# Altium schematic symbol library WPME-VDMM.SchLib: 9 symbols
Pins are listed as number, name and electrical type; pins without a type are passive.

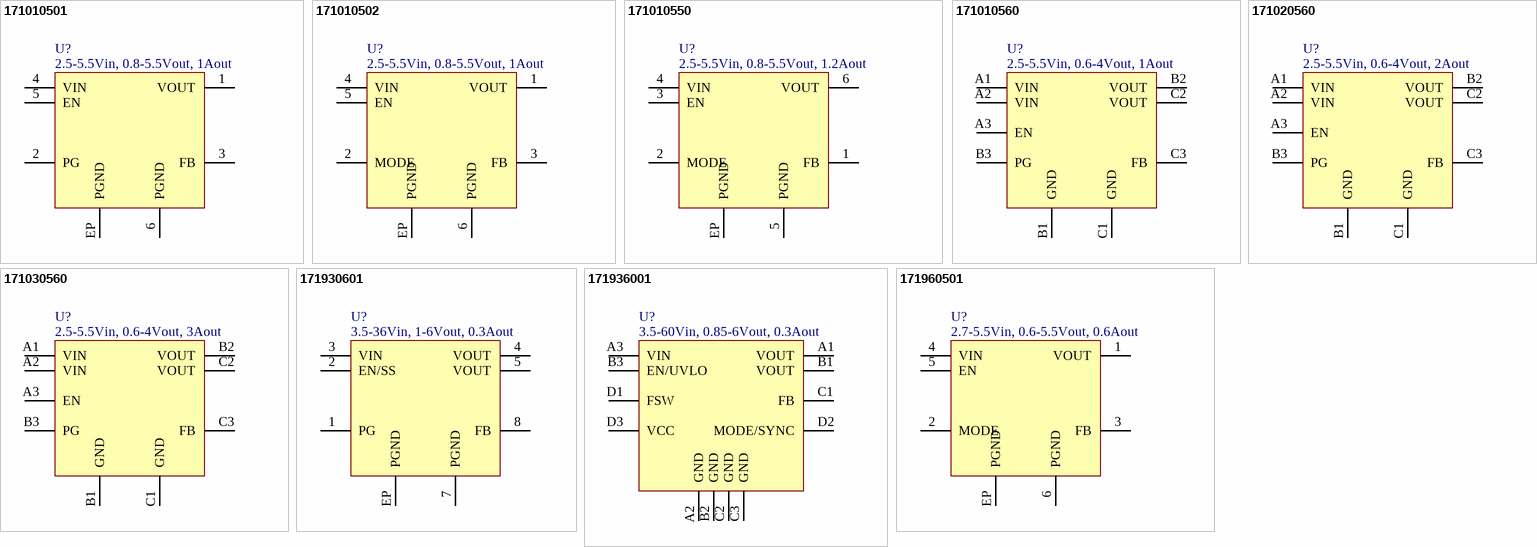
[diagram p0: symbols 171010501 to 171960501]

## 171010501
designator U?, comment 2.5-5.5Vin, 0.8-5.5Vout, 1Aout
WPME-VDMM Variable Step Down MicroModule, SMT, LGA-6EP, 2.5-5.5Vin, 0.8-5.5Vout, 1Aout; Manufacturer Part Number: 171010501; Manufacturer: Wurth Elektronik; Input Voltage Min: 2.5V; Input Voltage Max: 5.5V; Output Current: 1A; Output Voltage Min: 0.8V; Category: Step Down Converter; Match Code: WPME-VDMM; ComponentLink1Description: Website Link; ComponentLink1URL: https://www.we-online.com/redexpert/article/171010501?ad; ComponentLink2Description: Datasheet Link; ComponentLink2URL: https://www.we-online.com/redexpert/spec/171010501?ad; Mount: Surface Mount; Min Operating Temperature: -40°C; Max Operating Temperature: 125°C; Packaging: Tape and Reel; Case/Size Code: LGA-6EP; Length: 3.2mm; Width: 2.5mm; Height: 1.6mm; Output Voltage Max: 5.5V; Type: Open frame; Version: Power Good
footprint WPME-VDMM_LGA-6EP_L3.2W2.5H1.6
pins: 1 VOUT, 2 PG, 3 FB, 4 VIN, 5 EN, 6 PGND, EP PGND

## 171010502
designator U?, comment 2.5-5.5Vin, 0.8-5.5Vout, 1Aout
WPME-VDMM Variable Step Down MicroModule, SMT, LGA-6EP, 2.5-5.5Vin, 0.8-5.5Vout, 1Aout; Manufacturer Part Number: 171010502; Manufacturer: Wurth Elektronik; Input Voltage Min: 2.5V; Input Voltage Max: 5.5V; Output Current: 1A; Output Voltage Min: 0.8V; Category: Step Down Converter; Match Code: WPME-VDMM; ComponentLink1Description: Website Link; ComponentLink1URL: https://www.we-online.com/redexpert/article/171010502?ad; ComponentLink2Description: Datasheet Link; ComponentLink2URL: https://www.we-online.com/redexpert/spec/171010502?ad; Mount: Surface Mount; Min Operating Temperature: -40°C; Max Operating Temperature: 125°C; Packaging: Tape and Reel; Case/Size Code: LGA-6EP; Length: 3.2mm; Width: 2.5mm; Height: 1.6mm; Output Voltage Max: 5.5V; Type: Open frame; Version: Mode Select
footprint WPME-VDMM_LGA-6EP_L3.2W2.5H1.6
pins: 1 VOUT, 2 MODE, 3 FB, 4 VIN, 5 EN, 6 PGND, EP PGND

## 171010550
designator U?, comment 2.5-5.5Vin, 0.8-5.5Vout, 1.2Aout
WPME-VDMM Variable Step Down MicroModule, SMT, LGA-6EP, 2.5-5.5Vin, 0.8-5.5Vout, 1.2Aout; Manufacturer Part Number: 171010550; Manufacturer: Wurth Elektronik; Input Voltage Min: 2.5V; Input Voltage Max: 5.5V; Output Current: 1.2A; Output Voltage Min: 0.8V; Category: Step Down Converter; Match Code: WPME-VDMM; ComponentLink1Description: Website Link; ComponentLink1URL: https://www.we-online.com/redexpert/article/171010550?ad; ComponentLink2Description: Datasheet Link; ComponentLink2URL: https://www.we-online.com/redexpert/spec/171010550?ad; Mount: Surface Mount; Min Operating Temperature: -40°C; Max Operating Temperature: 125°C; Packaging: Tape and Reel; Case/Size Code: LGA-6EP; Length: 2.5mm; Width: 2.5mm; Height: 1.2mm; Output Voltage Max: 5.5V; Type: Overmolded; Version: Mode Select
footprint WPME-VDMM_LGA-6EP_L2.5W2.5H1.2
pins: 1 FB, 2 MODE, 3 EN, 4 VIN, 5 PGND, 6 VOUT, EP PGND

## 171010560
designator U?, comment 2.5-5.5Vin, 0.6-4Vout, 1Aout
WPME-VDMM Variable Step Down MicroModule, SMT, LGA-9, 2.5-5.5Vin, 0.6-4Vout, 1Aout; Manufacturer Part Number: 171010560; Manufacturer: Wurth Elektronik; Input Voltage Min: 2.5V; Input Voltage Max: 5.5V; Output Current: 1A; Output Voltage Min: 0.6V; Output Voltage Max: 4V; Category: Step Down Converter; Match Code: WPME-VDMM; ComponentLink1Description: Website Link; ComponentLink1URL: https://www.we-online.com/redexpert/article/171010560?ad; ComponentLink2Description: Datasheet Link; ComponentLink2URL: https://www.we-online.com/redexpert/spec/171010560?ad; Mount: Surface Mount; Min Operating Temperature: -40°C; Max Operating Temperature: 125°C; Packaging: Tape and Reel; Case/Size Code: LGA-9; Length: 3.5mm; Width: 3.5mm; Height: 1.5mm; Type: Overmolded; Version: Power Good
footprint WPME-VDMM_LGA-9_L3.5W3.5H1.5
pins: A1 VIN, A2 VIN, A3 EN, B1 GND, B2 VOUT, B3 PG, C1 GND, C2 VOUT, C3 FB

## 171020560
designator U?, comment 2.5-5.5Vin, 0.6-4Vout, 2Aout
WPME-VDMM Variable Step Down MicroModule, SMT, LGA-9, 2.5-5.5Vin, 0.6-4Vout, 2Aout; Manufacturer Part Number: 171020560; Manufacturer: Wurth Elektronik; Input Voltage Min: 2.5V; Input Voltage Max: 5.5V; Output Current: 2A; Output Voltage Min: 0.6V; Output Voltage Max: 4V; Category: Step Down Converter; Match Code: WPME-VDMM; ComponentLink1Description: Website Link; ComponentLink1URL: https://www.we-online.com/redexpert/article/171020560?ad; ComponentLink2Description: Datasheet Link; ComponentLink2URL: https://www.we-online.com/redexpert/spec/171020560?ad; Mount: Surface Mount; Min Operating Temperature: -40°C; Max Operating Temperature: 125°C; Packaging: Tape and Reel; Case/Size Code: LGA-9; Length: 3.5mm; Width: 3.5mm; Height: 1.5mm; Type: Overmolded; Version: Power Good
footprint WPME-VDMM_LGA-9_L3.5W3.5H1.5
pins: A1 VIN, A2 VIN, A3 EN, B1 GND, B2 VOUT, B3 PG, C1 GND, C2 VOUT, C3 FB

## 171030560
designator U?, comment 2.5-5.5Vin, 0.6-4Vout, 3Aout
WPME-VDMM Variable Step Down MicroModule, SMT, LGA-9, 2.5-5.5Vin, 0.6-4Vout, 3Aout; Manufacturer Part Number: 171030560; Manufacturer: Wurth Elektronik; Input Voltage Min: 2.5V; Input Voltage Max: 5.5V; Output Current: 3A; Output Voltage Min: 0.6V; Output Voltage Max: 4V; Category: Step Down Converter; Match Code: WPME-VDMM; ComponentLink1Description: Website Link; ComponentLink1URL: https://www.we-online.com/redexpert/article/171030560?ad; ComponentLink2Description: Datasheet Link; ComponentLink2URL: https://www.we-online.com/redexpert/spec/171030560?ad; Mount: Surface Mount; Min Operating Temperature: -40°C; Max Operating Temperature: 125°C; Packaging: Tape and Reel; Case/Size Code: LGA-9; Length: 3.5mm; Width: 3.5mm; Height: 1.5mm; Type: Overmolded; Version: Power Good
footprint WPME-VDMM_LGA-9_L3.5W3.5H1.5
pins: A1 VIN, A2 VIN, A3 EN, B1 GND, B2 VOUT, B3 PG, C1 GND, C2 VOUT, C3 FB

## 171930601
designator U?, comment 3.5-36Vin, 1-6Vout, 0.3Aout
WPME-VDMM Variable Step Down MicroModule, SMT, LGA-8EP, 3.5-36Vin, 1-6Vout, 0.3Aout; Manufacturer Part Number: 171930601; Manufacturer: Wurth Elektronik; Input Voltage Min: 3.5V; Input Voltage Max: 36V; Output Current: 0.3A; Output Voltage Min: 1V; Output Voltage Max: 6V; Category: Step Down Converter; Match Code: WPME-VDMM; ComponentLink1Description: Website Link; ComponentLink1URL: https://www.we-online.com/redexpert/article/171930601?ad; ComponentLink2Description: Datasheet Link; ComponentLink2URL: https://www.we-online.com/redexpert/spec/171930601?ad; Mount: Surface Mount; Min Operating Temperature: -40°C; Max Operating Temperature: 125°C; Packaging: Tape and Reel; Case/Size Code: LGA-8EP; Length: 5mm; Width: 2.5mm; Height: 1.8mm; Type: Overmolded; Version: Power Good
footprint WPME-VDMM_LGA-8EP_L5W2.5H1.8
pins: 1 PG, 2 EN/SS, 3 VIN, 4 VOUT, 5 VOUT, 7 PGND, 8 FB, EP PGND

## 171936001
designator U?, comment 3.5-60Vin, 0.85-6Vout, 0.3Aout
WPME-VDMM Variable Step Down MicroModule, SMT, LGA-12, 3.5-60Vin, 0.85-6Vout, 0.3Aout; Manufacturer Part Number: 171936001; Manufacturer: Wurth Elektronik; Input Voltage Min: 3.5V; Input Voltage Max: 60V; Output Current: 0.3A; Output Voltage Min: 0.85V; Output Voltage Max: 6V; Category: Step Down Converter; Match Code: WPME-VDMM; ComponentLink1Description: Website Link; ComponentLink1URL: https://www.we-online.com/redexpert/article/171936001?ad; ComponentLink2Description: Datasheet Link; ComponentLink2URL: https://www.we-online.com/redexpert/spec/171936001?ad; Mount: Surface Mount; Min Operating Temperature: -40°C; Max Operating Temperature: 125°C; Packaging: Tape and Reel; Case/Size Code: LGA-12; Length: 8mm; Width: 5.5mm; Height: 2.4mm; Type: Overmolded; Version: Mode Select
footprint WPME-VDMM_LGA-12_L8W5.5H2.4
pins: A1 VOUT, A2 GND, A3 VIN, B1 VOUT, B2 GND, B3 EN/UVLO, C1 FB, C2 GND, C3 GND, D1 FSW, D2 MODE/SYNC, D3 VCC

## 171960501
designator U?, comment 2.7-5.5Vin, 0.6-5.5Vout, 0.6Aout
WPME-VDMM Variable Step Down MicroModule, SMT, LGA-6EP, 2.7-5.5Vin, 0.6-5.5Vout, 0.6Aout; Manufacturer Part Number: 171960501; Manufacturer: Wurth Elektronik; Input Voltage Min: 2.7V; Input Voltage Max: 5.5V; Output Current: 0.6A; Output Voltage Min: 0.6V; Category: Step Down Converter; Match Code: WPME-VDMM; ComponentLink1Description: Website Link; ComponentLink1URL: https://www.we-online.com/redexpert/article/171960501?ad; ComponentLink2Description: Datasheet Link; ComponentLink2URL: https://www.we-online.com/redexpert/spec/171960501?ad; Mount: Surface Mount; Min Operating Temperature: -40°C; Max Operating Temperature: 125°C; Packaging: Tape and Reel; Case/Size Code: LGA-6EP; Length: 3.2mm; Width: 2.5mm; Height: 1.6mm; Output Voltage Max: 5.5V; Type: Open frame; Version: Mode Select
footprint WPME-VDMM_LGA-6EP_L3.2W2.5H1.6
pins: 1 VOUT, 2 MODE, 3 FB, 4 VIN, 5 EN, 6 PGND, EP PGND